# Altium footprint library WS2812B2020.PcbLib: 1 footprints
Each footprint in its own frame and in the unit in brackets; x right, y up, seen from the top. Pads: shape width x height; smd on the part's side, far side on the other; paste and mask are expansions set on the pad; w line width, h text height; cw(c..) or ccw(c..) is an arc to the next point about the centre after c.
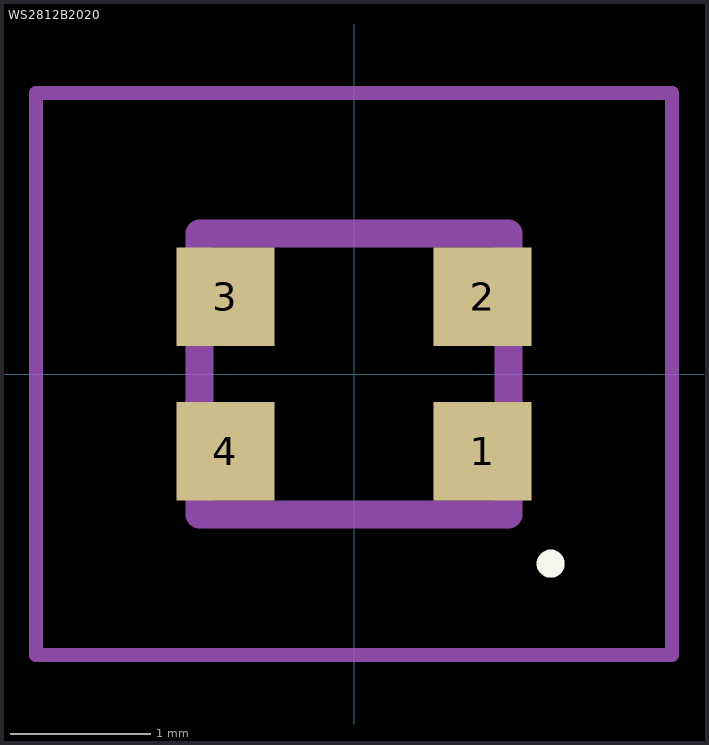
[diagram p0: the footprint, top view; thin cyan lines are the x and y axes]

## WS2812B2020 [mm]
pads (4):
  rect 0.7x0.7 smd: 1(0.915,-0.55) 2(0.915,0.55) 3(-0.915,0.55) 4(-0.915,-0.55)
Top Overlay:
  lines w0.1: 1.4,-1.4 cw(c1.4,-1.35) 1.4,-1.3 cw(c1.4,-1.35) 1.4,-1.4
Mechanical 15:
  lines w0.2: -1.1,-1 -1.1,1 1.1,1 1.1,-1 -1.1,-1
Mechanical 20:
  lines w0.1: -2.265,-2 -2.265,2 2.265,2 2.265,-2 -2.265,-2
3D body "WS2812B-2020.stp": height 0.84, standoff -0.01, extent -1.1,-1 1.1,1